# Altium footprint library PCB - LEADED - TSOP-FP-PW0008A-MFG.PCBLIB: 1 footprints
Each footprint in its own frame and in the unit in brackets; x right, y up, seen from the top. Pads: shape width x height; smd on the part's side, far side on the other; paste and mask are expansions set on the pad; w line width, h text height; cw(c..) or ccw(c..) is an arc to the next point about the centre after c.
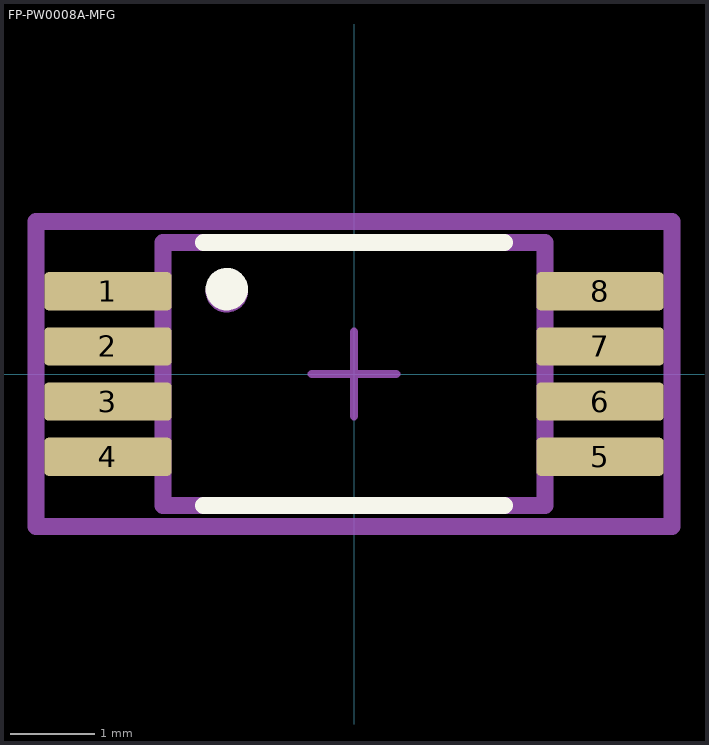
[diagram p0: the footprint, top view; thin cyan lines are the x and y axes]

## FP-PW0008A-MFG [mm]
pads (8):
  rrect22% 1.5x0.45 smd paste+0 mask+0: 1(-2.9,0.975) 2(-2.9,0.325) 3(-2.9,-0.325) 4(-2.9,-0.975) 5(2.9,-0.975) 6(2.9,-0.325) 7(2.9,0.325) 8(2.9,0.975)
Top Overlay:
  circle w0.25: c-1.5,1 r0.125
  lines w0.2: -1.775,-1.55 1.775,-1.55 ; -1.775,1.55 1.775,1.55
Top Assembly:
  circle w0.25: c-1.5,0.975 r0.125
  lines w0.2: -2.25,-1.55 2.25,-1.55 2.25,1.55 -2.25,1.55 -2.25,-1.55
Top Courtyard:
  lines w0.2: -3.75,-1.8 3.75,-1.8 ; -3.75,-1.8 -3.75,1.8 ; -3.75,-1.8 3.75,-1.8 ; -3.75,-1.8 -3.75,1.8 ; -3.75,1.8 3.75,1.8 ; -3.75,1.8 3.75,1.8 ; 3.75,-1.8 3.75,1.8 ; 3.75,-1.8 3.75,1.8
Top Designator:
  text ".Designator" at 4.3,0.2 h1
Top Component Center:
  lines w0.1: -0.5,0 0.5,0 ; 0,-0.5 0,0.5
Top Value:
  text ".Comment" at 4.3,-0.8 h1
3D body "IC_Texas_Instruments_CDCLVC1104PWR_eec.STEP": height 1.2, standoff 0, extent -3.2,-1.5 3.2,1.5